# Altium footprint library XAL5050-153MEC.PCBLIB: 1 footprints
Each footprint in its own frame and in the unit in brackets; x right, y up, seen from the top. Pads: shape width x height; smd on the part's side, far side on the other; paste and mask are expansions set on the pad; w line width, h text height; cw(c..) or ccw(c..) is an arc to the next point about the centre after c.
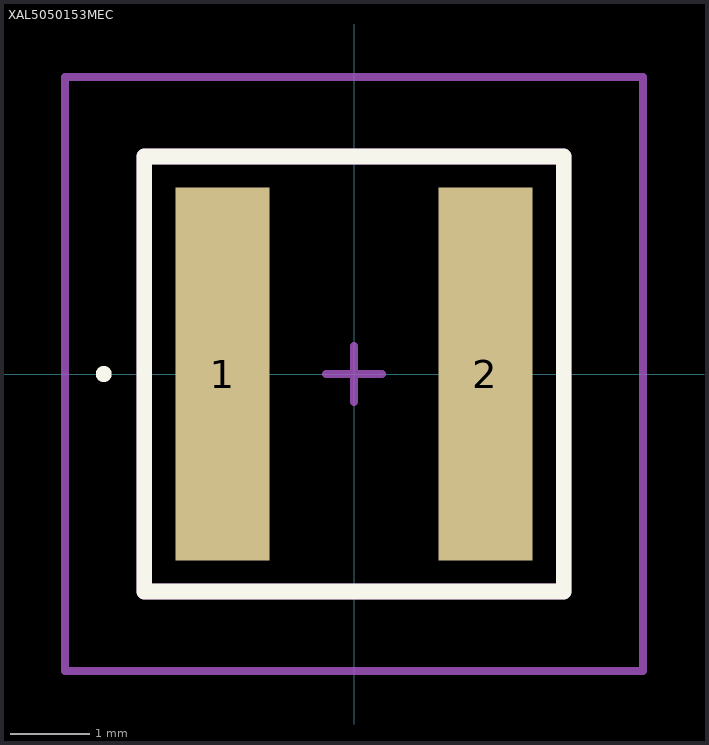
[diagram p0: the footprint, top view; thin cyan lines are the x and y axes]

## XAL5050153MEC [mm]
pads (2):
  rect 1.18x4.7 smd: 1(-1.655,0) 2(1.655,0)
Top Overlay:
  lines w0.1: -3.2,0 cw(c-3.15,0) -3.1,0 cw(c-3.15,0) -3.2,0
  lines w0.2: -2.64,-2.74 -2.64,2.74 2.64,2.74 2.64,-2.74 -2.64,-2.74
Top Assembly:
  lines w0.2: -2.64,-2.74 -2.64,2.74 2.64,2.74 2.64,-2.74 -2.64,-2.74
Top Courtyard:
  lines w0.1: -2.64,-2.74 -2.64,2.74 2.64,2.74 2.64,-2.74 -2.64,-2.74
Top Designator:
  text ".Designator" at -2.174,2.984 h1
Top Component Center:
  lines w0.1: -0.35,0 0.35,0 ; 0,-0.35 0,0.35
Mechanical 20:
  lines w0.1: -3.64,-3.74 -3.64,3.74 3.64,3.74 3.64,-3.74 -3.64,-3.74
3D body "XAL5050-153MEC.stp": height 5.2, standoff 0, extent -2.637,-2.746 2.643,2.734